# EAGLE library part CONN_06 (library dawidkulpa_con)
1x6 connector
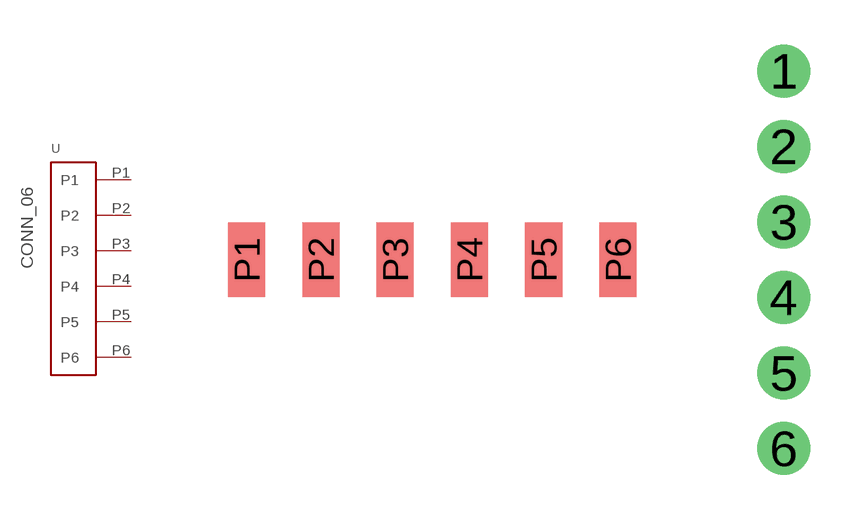
[diagram p5: symbol with the pads of RAW_6; footprints RAW_6, GP_06M]

Designator prefix -

## CONN_06RAW  [RAW_6]
P1  P1
P2  P2
P3  P3
P4  P4
P5  P5
P6  P6

## CONN_06GOLDPIN  [GP_06M]
1  P1
2  P2
3  P3
4  P4
5  P5
6  P6

## CONN_06JST-PH  [WS-06S]
P$1  P1
P$2  P2
P$3  P3
P$4  P4
P$5  P5
P$6  P6

## CONN_06JST-ZH  [JST-ZH-S6]
Pads as for RAW_6

## CONN_06JST-SRS  [JST-SR-S6]
Pads as for RAW_6

## Footprint RAW_6 (pad centres in mm)
smd 1 x 2: P1 -4,0; P2 -2,0; P3 0,0; P4 2,0; P5 4,0; P6 6,0

## Footprint GP_06M (pad centres in mm)
drill 1 pad 1.778: 1 0,6.35; 2 0,3.81; 3 0,1.27; 4 0,-1.27; 5 0,-3.81; 6 0,-6.35

## Footprint WS-06S (pad centres in mm)
drill 0.8 pad 1.3: P$1 -1,0; P$2 1,0; P$3 -3,0; P$4 3,0; P$5 -5,0; P$6 5,0

## Footprint JST-ZH-S6 (pad centres in mm)
drill 0.7 pad 1.2: P1 -3.75,0; P2 -2.25,0; P3 -0.75,0; P4 0.75,0; P5 2.25,0; P6 3.75,0

## Footprint JST-SR-S6 (pad centres in mm)
smd 1.2 x 1.8: M1 -3.8,-3.875; M2 3.8,-3.875
smd 0.6 x 1.55: P1 -2.5,0; P2 -1.5,0; P3 -0.5,0; P4 0.5,0; P5 1.5,0; P6 2.5,0